# EAGLE library part HI3-DAC80V-5 (library Intersil_By_element14_Batch_1)
12-Bit, Low Cost, Monolithic D/A Converter
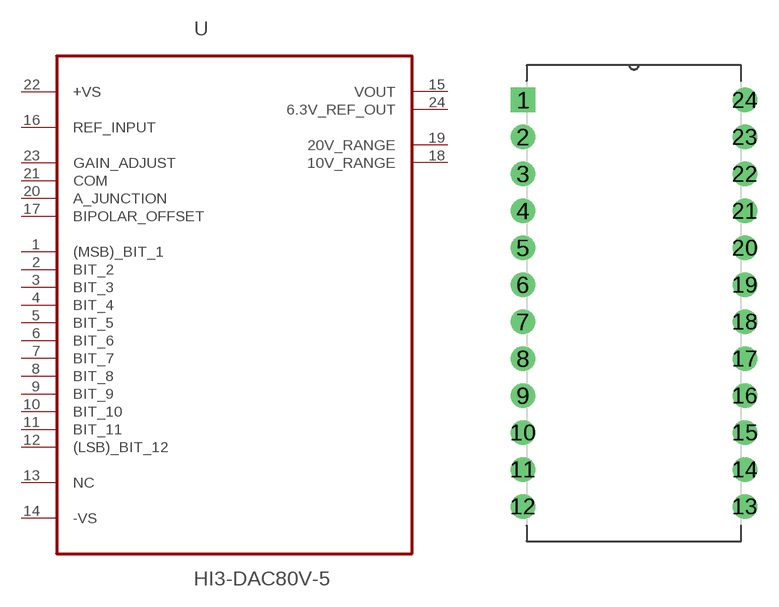
[diagram p130: symbol with the pads of DIP254P1524X635-24; footprint DIP254P1524X635-24]

Designator prefix U

## HI3-DAC80V-5 (MPN: HI3-DAC80V-5; OC_FARNELL: -; OC_NEWARK: 06F6297; PACKAGE: PDIP-24; SUPPLIER: INTERSIL)  [DIP254P1524X635-24]
1  (MSB)_BIT_1  in
2  BIT_2  in
3  BIT_3  in
4  BIT_4  in
5  BIT_5  in
6  BIT_6  in
7  BIT_7  in
8  BIT_8  in
9  BIT_9  in
10  BIT_10  in
11  BIT_11  in
12  (LSB)_BIT_12  in
13  NC  nc
14  -VS  pwr
15  VOUT  out
16  REF_INPUT  in
17  BIPOLAR_OFFSET  in
18  10V_RANGE  pas
19  20V_RANGE  pas
20  A_JUNCTION  in
21  COM  pas
22  +VS  pwr
23  GAIN_ADJUST  in
24  6.3V_REF_OUT  out

## Footprint DIP254P1524X635-24 (pad centres in mm)
drill 1.118 square: 1 -15.24,27.94
drill 1.118: 2 -15.24,25.4; 3 -15.24,22.86; 4 -15.24,20.32; 5 -15.24,17.78; 6 -15.24,15.24; 7 -15.24,12.7; 8 -15.24,10.16; 9 -15.24,7.62; 10 -15.24,5.08; 11 -15.24,2.54; 12 -15.24,0; 13 0,0; 14 0,2.54; 15 0,5.08; 16 0,7.62; 17 0,10.16; 18 0,12.7; 19 0,15.24; 20 0,17.78; 21 0,20.32; 22 0,22.86; 23 0,25.4; 24 0,27.94